# EAGLE library part 691305140006 (library WR-TBL Pluggable Connector)
WR-TBL Serie 3051 - 3.50 mm Horizontal PCB Header KIND PROPERTIES Pitch 3.5 mm MATERIAL PROPERTIES Insulator Material PA66 Insulator Flammability Rating UL94 V-0 Insulator Color Green Contact Material Copper Alloy Contact Plating Tin GENERAL INFORMATION Operating Temperature -40 up to +105 °C Compliance Lead free / RoHS ELECTRICAL PROPERTIES IR UL 12 A Working Voltage [UL] 300 V (AC) Withstanding Voltage [UL] 2500 V (AC) Contact Resistance 20 mΩ CERTIFICATION UL Approval E315414 <https://www.we-online.com/catalog/media/o84264v209%20Family_WR-TBL3_6913051400xx.jpg> Details see: https://www.we-online.com/catalog/en/TBL_3_50_3051_HORIZONTAL_PCB_HEADER_6913051400xx/ Updated by Ella Wu 2019-12-18 2022(C) Wurth Elektronik
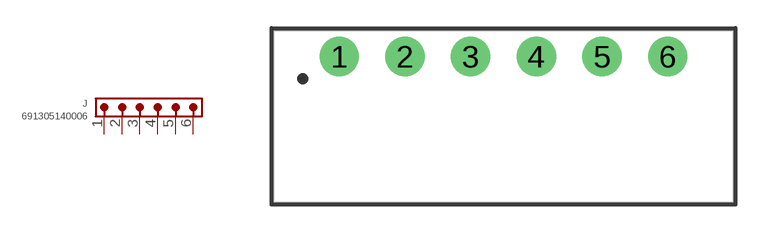
[diagram p52: symbol with the pads of 691305140006; footprint 691305140006]

Designator prefix J

## 691305140006 (DATASHEET-URL: https://www.we-online.com/redexpert/spec/691305140006?ae; IR-UL: 12A; MOUNT: THT; PART-NUMBER: 691305140006; PINS: 6; PITCH: 3.5mm; TYPE: Horizontal; VALUE: 691305140006; WORKING-VOLTAGE-UL: 300V (AC))  [691305140006]
1  1  pas
2  2  pas
3  3  pas
4  4  pas
5  5  pas
6  6  pas

## Footprint 691305140006 (pad centres in mm)
WR-TBL Serie 3051 - 3.50 mm Horizontal PCB Header Max Height = 7.2mm , Pitch 3.5mm , 6pins
drill 1.4: 1 -8.75,0; 2 -5.25,0; 3 -1.75,0; 4 1.75,0; 5 5.25,0; 6 8.75,0